# Altium footprint library 直插.PcbLib: 159 footprints (part 8 of 10)
Each footprint in its own frame and in the unit in brackets; x right, y up, seen from the top. Pads: shape width x height; smd on the part's side, far side on the other; paste and mask are expansions set on the pad; w line width, h text height; cw(c..) or ccw(c..) is an arc to the next point about the centre after c.
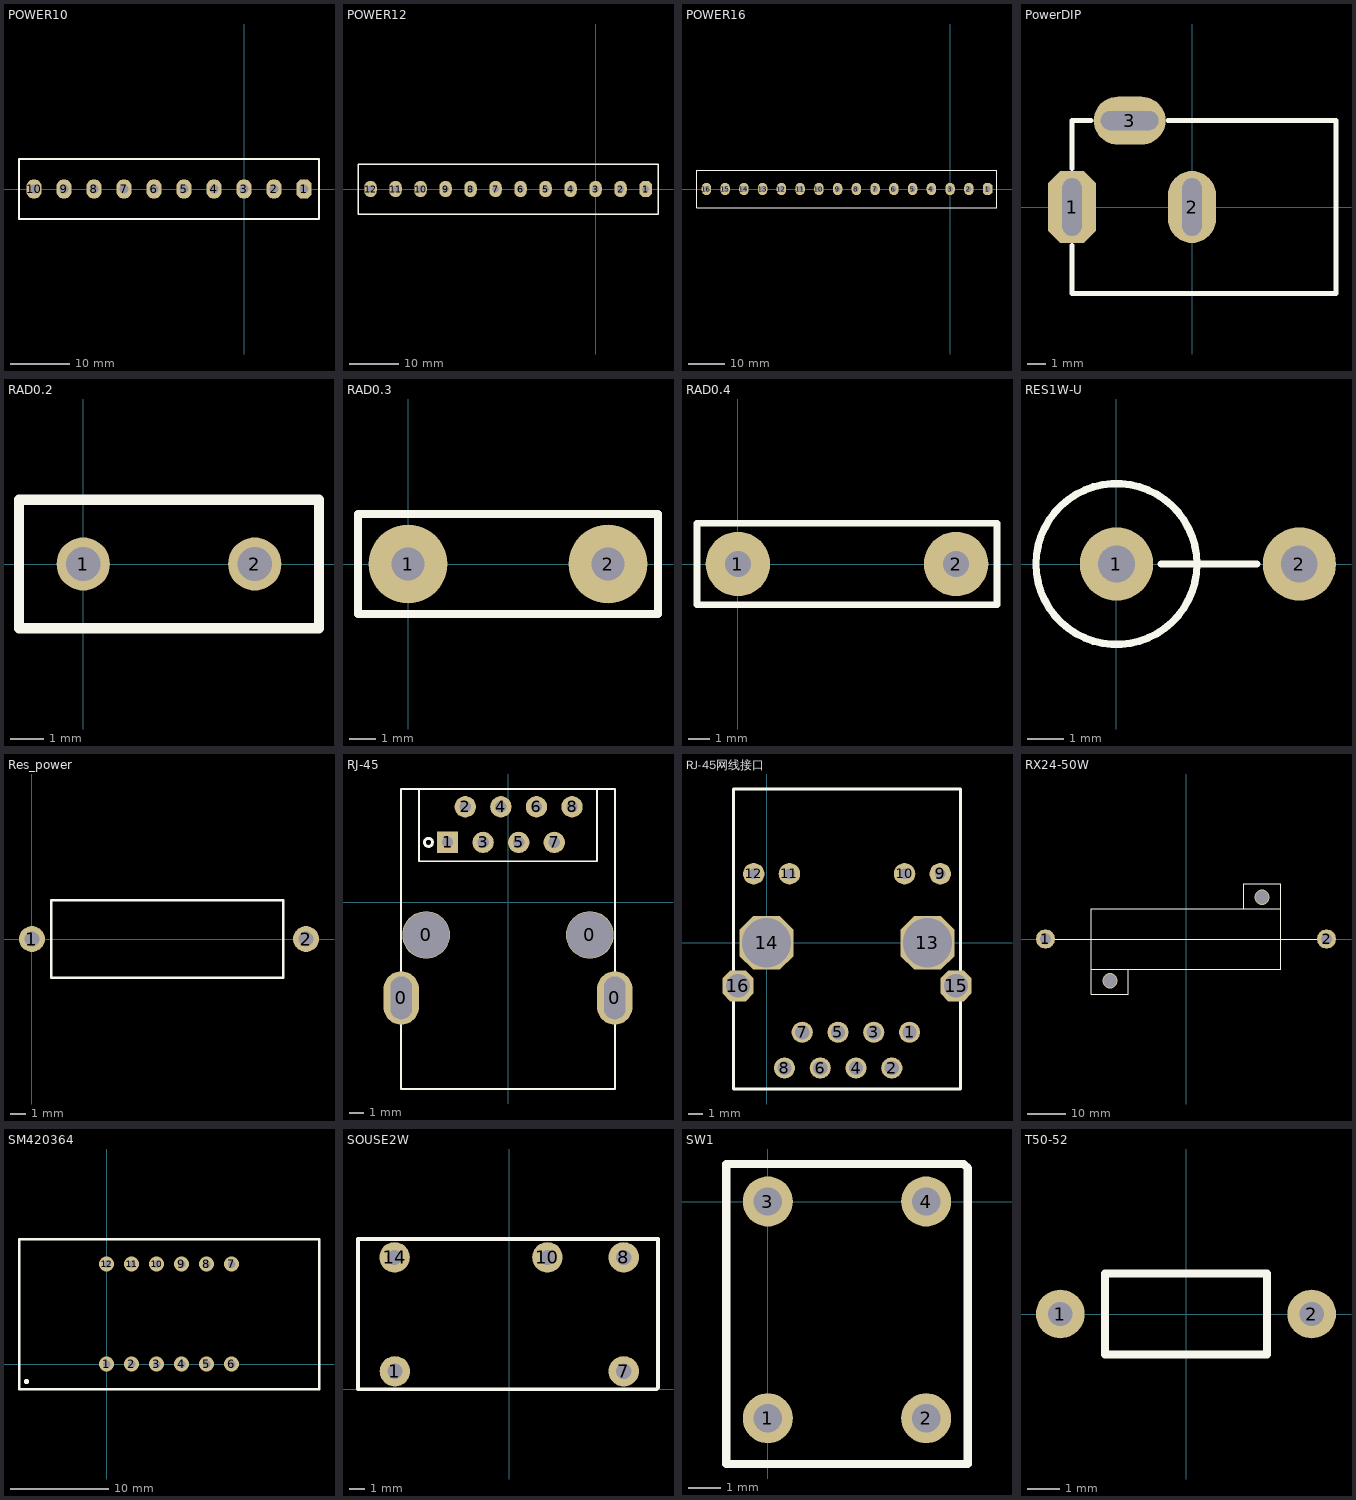
[diagram p7: the footprints below, top view; thin cyan lines are the x and y axes]

## POWER10 [mil]
pads (10):
  oct 100x130 hole 59.06: 1(400,0)
  oval 100x130 hole 59.06: 2(200,0) 3(0,0) 4(-200,0) 5(-400,0) 6(-600,0) 7(-800,0) 8(-1000,0) 9(-1200,0) 10(-1400,0)
Top Overlay:
  lines w12: -1500,-200 -1500,200 500,200 500,-200 -1500,-200

## POWER12 [mil]
pads (12):
  oct 100x130 hole 59.06: 1(400,0)
  oval 100x130 hole 59.06: 2(200,0) 3(0,0) 4(-200,0) 5(-400,0) 6(-600,0) 7(-800,0) 8(-1000,0) 9(-1200,0) 10(-1400,0) 11(-1600,0) 12(-1800,0)
Top Overlay:
  lines w12: -1900,-200 -1900,200 500,200 500,-200 -1900,-200

## POWER16 [mil]
pads (16):
  oct 100x130 hole 59.06: 1(400,0)
  oval 100x130 hole 59.06: 2(200,0) 3(0,0) 4(-200,0) 5(-400,0) 6(-600,0) 7(-800,0) 8(-1000,0) 9(-1200,0) 10(-1400,0) 11(-1600,0) 12(-1800,0) 13(-2000,0) 14(-2200,0) 15(-2400,0) 16(-2600,0)
Top Overlay:
  lines w12: -2700,-200 500,-200 500,200 -2700,200 -2700,-200

## PowerDIP [mil]
height 47.24
pads (3):
  oct 100x150 hole 40 slot 120 at 90 deg: 1(-250,0)
  oval 100x150 hole 40 slot 120 at 90 deg: 2(0,0)
  oval 150x100 hole 40 slot 120 at 0 deg: 3(-130,180)
Top Overlay:
  lines w10: -250,-80 -250,-180 300,-180 300,180 -50,180 ; -250,80 -250,180 -210,180

## RAD0.2 [mil]
pads (2):
  round 62 hole 40: 1(0,0) 2(200,0)
Top Overlay:
  lines w12: -75,-75 275,-75 275,75 -75,75 -75,-75

## RAD0.3 [mm]
pads (2):
  round 3 hole 1.27: 1(0,0) 2(7.62,0)
Top Overlay:
  lines w0.305: -1.905,-1.905 -1.905,1.905 9.525,1.905 9.525,-1.905 -1.905,-1.905

## RAD0.4 [mm]
pads (2):
  round 3 hole 1.2: 1(0,0) 2(10.16,0)
Top Overlay:
  lines w0.305: -1.905,-1.905 -1.905,1.905 12.065,1.905 12.065,-1.905 -1.905,-1.905

## RES1W-U [mm]
pads (2):
  round 2 hole 1: 1(0,0) 2(5,0)
Top Overlay:
  circle w0.2: c0,0 r2.2
  lines w0.2: 1.22,0 3.84,0

## Res_power [mm]
pads (2):
  round 1.7 hole 1: 1(0,0) 2(18,0)
Top Overlay:
  lines w0.15: 1.27,-2.54 16.51,-2.54 16.51,1.905 16.51,2.54 1.27,2.54 1.27,-2.54

## RJ-45 [mil]
pads (12):
  oval 100x150 hole 60 slot 120 at 90 deg: 0(-300,-268.58) 0(300,-268.58)
  round 133.86 hole 129.92: 0(-230,-91.42) 0(230,-91.42)
  rect 60x60 hole 31.89: 1(-170,168.58)
  round 60 hole 31.89: 2(-120,268.58) 3(-70,168.58) 4(-20,268.58) 5(30,168.58) 6(80,268.58) 7(130,168.58) 8(180,268.58)
Top Overlay:
  circle w8: c-223.4,168.58 r11.4
  lines w5: -301,-524.42 301,-524.42 ; -301,-523.94 -301,318.58 301,318.58 301,-523.94 ; -250,318.58 -250,115.58 250,115.58 250,318.58

## RJ-45网线接口 [mm]
pads (16):
  round 1.5 hole 1: 1(10.155,-6.35) 2(8.895,-8.89) 3(7.615,-6.35) 4(6.355,-8.89) 5(5.075,-6.35) 6(3.815,-8.89) 7(2.535,-6.35) 8(1.275,-8.89)
  round 1.524 hole 0.762: 9(12.34,4.9) 10(9.8,4.9) 11(1.63,4.9) 12(-0.91,4.9)
  oct 3.8x3.8 hole 3.5: 13(11.43,0) 14(0,0)
  oct 2.2x2.2 hole 1.7: 15(13.46,-3.05) 16(-2.03,-3.05)
Top Overlay:
  lines w0.203: -2.335,-10.38 13.765,-10.38 13.765,10.92 -2.335,10.92 -2.335,-10.38

## RX24-50W [mm] "RX24黄金铝壳功率电阻器"
height 15
pads (2):
  round 5 hole 3: 1(-37,0) 2(37,0)
via 20,11 diameter 4 hole 3.5
via -20,-11 diameter 4 hole 3.5
Top Overlay:
  lines w0.254: -37,0 37,0 ; -15.24,-8 -15.24,-14.5 -25,-14.5 -25,-8 ; 15.24,8 15.24,14.5 25,14.5 25,8 ; -25,-8 -25,8 25,8 ; -25,-8 25,-8 25,8
3D body: height 15, standoff 0, extent -25.019,-8.001 25.019,8.001

## SM420364 [mil]
pads (12):
  round 60 hole 30: 1(0,0) 2(100,0) 3(200,0) 4(300,0) 5(400,0) 6(500,0) 7(500,400) 8(400,400) 9(300,400) 10(200,400) 11(100,400) 12(0,400)
Top Overlay:
  circle w10: c-320,-70 r5
  lines w10: -350,-100 -350,500 850,500 850,-100 -350,-100

## SOUSE2W [mil]
pads (5):
  round 80 hole 40: 1(-300,47) 7(300,47) 8(300,346) 10(100,346) 14(-301,346)
Top Overlay:
  lines w10: -397,0 386,0 390,4 390,395 389,394 -397,394 -397,0

## SW1 [mil]
height 200
pads (4):
  round 60 hole 34: 1(0,-260) 2(190,-260) 3(0,0) 4(190,0)
Top Overlay:
  lines w10: -50,-315 240,-315 240,40 235,45 -50,45 -50,-315

## T50-52 [mil]
pads (2):
  round 60 hole 30: 1(-155,0) 2(155,0)
Top Overlay:
  lines w10: -100,-50 -100,50 100,50 100,-50 -100,-50